# EAGLE library part CLX6A-FKB (library CREE_opto)
RGB SMD LED 3434
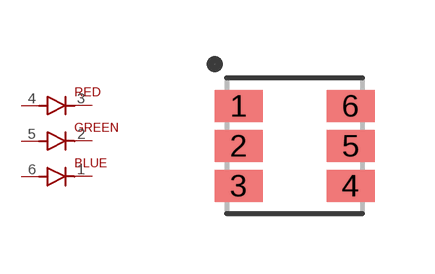
[diagram p1: symbol with the pads of RGB_6PINS_3434; footprint RGB_6PINS_3434]

Designator prefix LED

## CLX6A-FKB  [RGB_6PINS_3434]
1  BC
2  GC
3  RC
4  RA
5  GA
6  BA

## Footprint RGB_6PINS_3434 (pad centres in mm)
smd 1.2 x 0.8: 1 -1.4,1; 2 -1.4,0; 3 -1.4,-1; 4 1.4,-1; 5 1.4,0; 6 1.4,1